# EAGLE library part MAX8934DETI+ (library muccc)
Maxim Dual-Input Linear Charger Max8943D
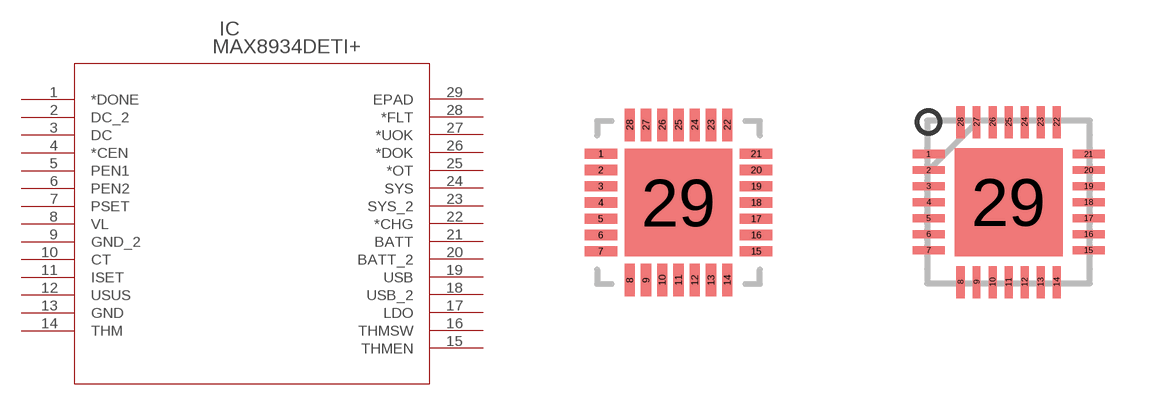
[diagram p7: symbol with the pads of 21-0139I_T2844-1; footprints 21-0139I_T2844-1, 21-0139I_T2844-PDF]

Designator prefix IC

## MAX8934DETI+ (MANUFACTURER_PART_NUMBER: max8934deti+; VENDOR: MAXIM)  [21-0139I_T2844-1]
1  *DONE  out
2  DC_2  in
3  DC  in
4  *CEN  in
5  PEN1  in
6  PEN2  in
7  PSET  in
8  VL  out
9  GND_2  pwr
10  CT  in
11  ISET  pas
12  USUS  in
13  GND  pwr
14  THM  in
15  THMEN  in
16  THMSW  out
17  LDO  out
18  USB_2  in
19  USB  in
20  BATT_2  pas
21  BATT  pas
22  *CHG  out
23  SYS_2  out
24  SYS  out
25  *OT  out
26  *DOK  out
27  *UOK  out
28  *FLT  out
29  EPAD  pas

## MAX8934DETI+PDF  [21-0139I_T2844-PDF]
Pads as for 21-0139I_T2844-1

## Footprint 21-0139I_T2844-1 (pad centres in mm)
smd 0.813 x 0.254: 1 -1.943,1.219; 2 -1.943,0.813; 3 -1.943,0.406; 4 -1.943,0; 5 -1.943,-0.406; 6 -1.943,-0.813; 7 -1.943,-1.219; 15 1.943,-1.219; 16 1.943,-0.813; 17 1.943,-0.406; 18 1.943,0; 19 1.943,0.406; 20 1.943,0.813; 21 1.943,1.219
smd 0.254 x 0.813: 8 -1.219,-1.943; 9 -0.813,-1.943; 10 -0.406,-1.943; 11 0,-1.943; 12 0.406,-1.943; 13 0.813,-1.943; 14 1.219,-1.943; 22 1.219,1.943; 23 0.813,1.943; 24 0.406,1.943; 25 0,1.943; 26 -0.406,1.943; 27 -0.813,1.943; 28 -1.219,1.943
smd 2.692 x 2.692: 29 0,0

## Footprint 21-0139I_T2844-PDF (pad centres in mm)
smd 0.8 x 0.2: 1 -2,1.2; 2 -2,0.8; 3 -2,0.4; 4 -2,0; 5 -2,-0.4; 6 -2,-0.8; 7 -2,-1.2; 15 2,-1.2; 16 2,-0.8; 17 2,-0.4; 18 2,0; 19 2,0.4; 20 2,0.8; 21 2,1.2
smd 0.2 x 0.8: 8 -1.2,-2; 9 -0.8,-2; 10 -0.4,-2; 11 0,-2; 12 0.4,-2; 13 0.8,-2; 14 1.2,-2; 22 1.2,2; 23 0.8,2; 24 0.4,2; 25 0,2; 26 -0.4,2; 27 -0.8,2; 28 -1.2,2
smd 2.7 x 2.7: 29 0,0